# Altium footprint library AD8591.PcbLib: 1 footprints
Each footprint in its own frame and in the unit in brackets; x right, y up, seen from the top. Pads: shape width x height; smd on the part's side, far side on the other; paste and mask are expansions set on the pad; w line width, h text height; cw(c..) or ccw(c..) is an arc to the next point about the centre after c.
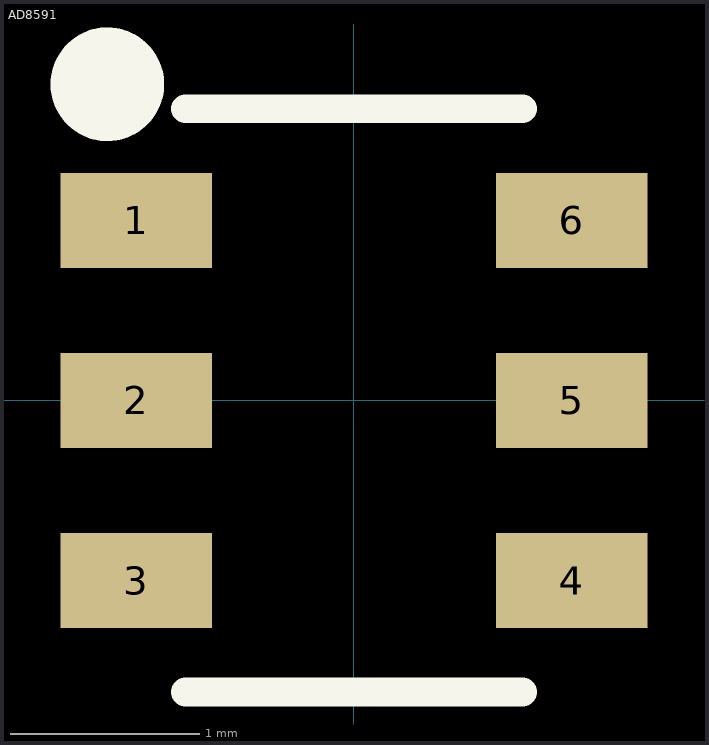
[diagram p0: the footprint, top view; thin cyan lines are the x and y axes]

## AD8591 [mm] "2.9*2.8"
pads (6):
  rect 0.8x0.5 smd mask+0.05: 1(-1.149,0.95) 2(-1.149,0) 3(-1.149,-0.95) 4(1.149,-0.95) 5(1.149,0) 6(1.149,0.95)
Top Overlay:
  circle w0.3: c-1.301,1.668 r0.15
  lines w0.152: -0.889,-1.539 0.889,-1.539 ; -0.889,1.539 0.889,1.539